# Altium footprint library Connect.PcbLib: 69 footprints (part 3 of 5)
Each footprint in its own frame and in the unit in brackets; x right, y up, seen from the top. Pads: shape width x height; smd on the part's side, far side on the other; paste and mask are expansions set on the pad; w line width, h text height; cw(c..) or ccw(c..) is an arc to the next point about the centre after c.
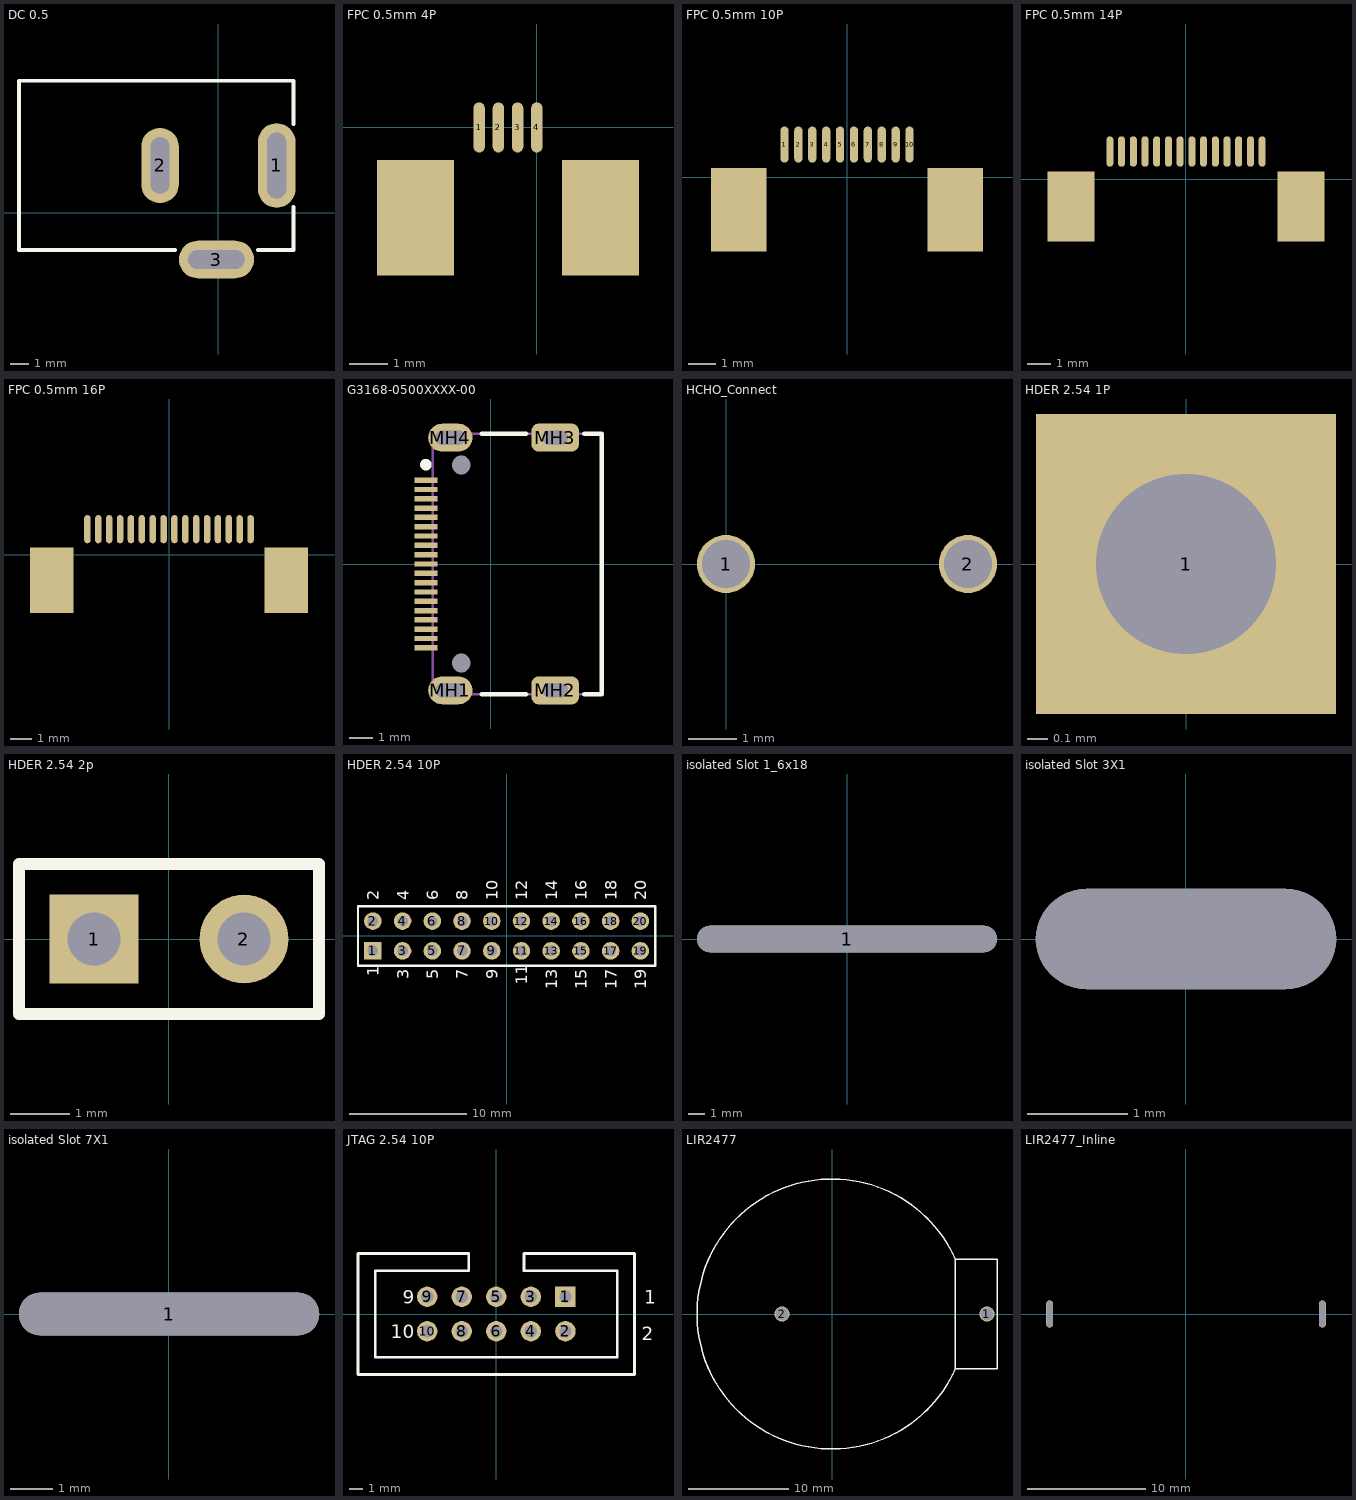
[diagram p2: the footprints below, top view; thin cyan lines are the x and y axes]

## DC 0.5 [mm]
pads (3):
  oval 2x4.5 hole 1 slot 3.5 at 90 deg: 1(3.1,2.5)
  oval 2x4 hole 1 slot 3 at 90 deg: 2(-3.1,2.5)
  oval 4x2 hole 1 slot 3 at 0 deg: 3(-0.1,-2.5)
Top Overlay:
  lines w0.2: -2.3,-2 -10.6,-2 -10.6,7 4,7 4,4.7 ; 2.1,-2 4,-2 4,0.3
3D body: height 7.62, standoff 0, extent -10.592,-1.944 4.013,6.946

## FPC 0.5mm 4P [mm]
pads (6):
  oval 0.3x1.3 smd: 1(-1.5,0) 2(-1,0) 3(-0.5,0) 4(0,0)
  rect 2x3 smd: ""(-3.15,-2.35) ""(1.65,-2.35)
3D body: height 1, standoff 0.8, extent -1.65,-4.64 -1.35,-1.625
3D body: height 1, standoff 0.8, extent -1.15,-4.63 -0.85,-1.615
3D body: height 1, standoff 0.8, extent -0.65,-4.64 -0.35,-1.625
3D body: height 1, standoff 0.8, extent -0.15,-4.64 0.15,-1.625
3D body: height 0.3, standoff 0, extent -4.54,-5.07 3.1,-4.035
3D body: height 0.3, standoff 0, extent -2.05,-4.395 0.6,-1.615
3D body: height 0.8, standoff 0, extent -1.65,-1.625 -1.35,0.505
3D body: height 1.5, standoff 1.2, extent -2.05,-4.395 0.64,-1.62
3D body: height 2, standoff 0, extent -4,-4.035 -2.05,-0.65
3D body: height 2, standoff 0, extent 0.675,-4.042 2.625,-0.657
3D body: height 2, standoff 1.7, extent -4.54,-5.07 3.1,-4.035
3D body: height 0.8, standoff 0, extent -1.15,-1.625 -0.85,0.505
3D body: height 0.8, standoff 0, extent -0.65,-1.625 -0.35,0.505
3D body: height 0.8, standoff 0, extent -0.15,-1.625 0.15,0.505
3D body: height 2, standoff 0, extent 2.78,-5.058 3.1,-4.023
3D body: height 2, standoff 0, extent -4.54,-5.07 -4.22,-4.035
3D body: height 2, standoff 0, extent 0.59,-4.38 3.1,-4.02
3D body: height 2, standoff 0, extent -4.54,-4.395 -2.05,-4.035
3D body: height 2, standoff 1.5, extent -2.05,-4.395 3.1,-4.035
3D body: height 1.5, standoff 0, extent -2.05,-1.975 1.7,-1.615

## FPC 0.5mm 10P [mm]
pads (12):
  oval 0.3x1.3 smd: 1(-2.25,1.175) 2(-1.75,1.175) 3(-1.25,1.175) 4(-0.75,1.175) 5(-0.25,1.175) 6(0.25,1.175) 7(0.75,1.175) 8(1.25,1.175) 9(1.75,1.175) 10(2.25,1.175)
  rect 2x3 smd: ""(-3.9,-1.175) ""(3.9,-1.175)
3D body: height 1, standoff 0.8, extent -2.4,-3.465 -2.1,-0.45
3D body: height 1, standoff 0.8, extent -1.9,-3.455 -1.6,-0.44
3D body: height 1, standoff 0.8, extent -1.4,-3.465 -1.1,-0.45
3D body: height 1, standoff 0.8, extent -0.9,-3.465 -0.6,-0.45
3D body: height 1, standoff 0.8, extent -0.4,-3.465 -0.1,-0.45
3D body: height 1, standoff 0.8, extent 0.1,-3.465 0.4,-0.45
3D body: height 1, standoff 0.8, extent 0.6,-3.465 0.9,-0.45
3D body: height 1, standoff 0.8, extent 1.1,-3.475 1.4,-0.46
3D body: height 1, standoff 0.8, extent 1.6,-3.455 1.9,-0.44
3D body: height 0.3, standoff 0, extent -5.29,-3.895 5.31,-2.86
3D body: height 0.3, standoff 0, extent -2.8,-3.22 2.8,-0.44
3D body: height 0.8, standoff 0, extent -2.4,-0.45 -2.1,1.68
3D body: height 1.5, standoff 1.2, extent -2.8,-3.22 2.8,-0.445
3D body: height 2, standoff 0, extent -4.75,-2.86 -2.8,0.525
3D body: height 2, standoff 0, extent 2.8,-2.86 4.75,0.525
3D body: height 2, standoff 1.7, extent -5.29,-3.895 5.31,-2.86
3D body: height 0.8, standoff 0, extent -1.9,-0.45 -1.6,1.68
3D body: height 0.8, standoff 0, extent -1.4,-0.45 -1.1,1.68
3D body: height 0.8, standoff 0, extent -0.9,-0.45 -0.6,1.68
3D body: height 0.8, standoff 0, extent -0.4,-0.45 -0.1,1.68
3D body: height 0.8, standoff 0, extent 0.1,-0.45 0.4,1.68
3D body: height 0.8, standoff 0, extent 0.6,-0.45 0.9,1.68
3D body: height 0.8, standoff 0, extent 1.1,-0.46 1.4,1.67
3D body: height 0.8, standoff 0, extent 1.6,-0.46 1.9,1.67
3D body: height 0.8, standoff 0, extent 2.1,-0.46 2.4,1.67
3D body: height 1, standoff 0.8, extent 2.1,-3.475 2.4,-0.46
3D body: height 2, standoff 0, extent 4.99,-3.895 5.31,-2.86
3D body: height 2, standoff 0, extent -5.29,-3.895 -4.97,-2.86
3D body: height 2, standoff 0, extent 2.8,-3.22 5.31,-2.86
3D body: height 2, standoff 0, extent -5.29,-3.22 -2.8,-2.86
3D body: height 2, standoff 1.5, extent -2.8,-3.22 2.8,-2.86
3D body: height 1.5, standoff 0, extent -2.8,-0.8 2.8,-0.44

## FPC 0.5mm 14P [mm]
pads (16):
  oval 0.3x1.3 smd: 1(-3.25,1.175) 2(-2.75,1.175) 3(-2.25,1.175) 4(-1.75,1.175) 5(-1.25,1.175) 6(-0.75,1.175) 7(-0.25,1.175) 8(0.25,1.175) 9(0.75,1.175) 10(1.25,1.175) 11(1.75,1.175) 12(2.25,1.175) 13(2.75,1.175) 14(3.25,1.175)
  rect 2x3 smd: ""(-4.9,-1.175) ""(4.9,-1.175)
3D body: height 1, standoff 0.8, extent 3.1,-3.475 3.4,-0.46
3D body: height 1, standoff 0.8, extent 2.6,-3.475 2.9,-0.46
3D body: height 1, standoff 0.8, extent 2.1,-3.475 2.4,-0.46
3D body: height 1, standoff 0.8, extent 1.6,-3.475 1.9,-0.46
3D body: height 0.8, standoff 0, extent 3.1,-0.46 3.4,1.67
3D body: height 0.8, standoff 0, extent 2.6,-0.46 2.9,1.67
3D body: height 0.8, standoff 0, extent 2.1,-0.46 2.4,1.67
3D body: height 0.8, standoff 0, extent 1.6,-0.46 1.9,1.67
3D body: height 1, standoff 0.8, extent -3.4,-3.465 -3.1,-0.45
3D body: height 1, standoff 0.8, extent -2.9,-3.455 -2.6,-0.44
3D body: height 1, standoff 0.8, extent -2.4,-3.465 -2.1,-0.45
3D body: height 1, standoff 0.8, extent -1.9,-3.465 -1.6,-0.45
3D body: height 1, standoff 0.8, extent -1.4,-3.465 -1.1,-0.45
3D body: height 1, standoff 0.8, extent -0.9,-3.465 -0.6,-0.45
3D body: height 1, standoff 0.8, extent -0.4,-3.465 -0.1,-0.45
3D body: height 1, standoff 0.8, extent 0.1,-3.475 0.4,-0.46
3D body: height 1, standoff 0.8, extent 0.6,-3.455 0.9,-0.44
3D body: height 0.3, standoff 0, extent -6.29,-3.895 6.25,-2.86
3D body: height 0.3, standoff 0, extent -3.8,-3.22 3.85,-0.44
3D body: height 0.8, standoff 0, extent -3.4,-0.45 -3.1,1.68
3D body: height 1.5, standoff 1.2, extent -3.8,-3.22 3.85,-0.445
3D body: height 2, standoff 0, extent -5.75,-2.86 -3.8,0.525
3D body: height 2, standoff 0, extent 3.925,-2.867 5.875,0.518
3D body: height 2, standoff 1.7, extent -6.29,-3.895 6.25,-2.86
3D body: height 0.8, standoff 0, extent -2.9,-0.45 -2.6,1.68
3D body: height 0.8, standoff 0, extent -2.4,-0.45 -2.1,1.68
3D body: height 0.8, standoff 0, extent -1.9,-0.45 -1.6,1.68
3D body: height 0.8, standoff 0, extent -1.4,-0.45 -1.1,1.68
3D body: height 0.8, standoff 0, extent -0.9,-0.45 -0.6,1.68
3D body: height 0.8, standoff 0, extent -0.4,-0.45 -0.1,1.68
3D body: height 0.8, standoff 0, extent 0.1,-0.46 0.4,1.67
3D body: height 0.8, standoff 0, extent 0.6,-0.46 0.9,1.67
3D body: height 0.8, standoff 0, extent 1.1,-0.46 1.4,1.67
3D body: height 1, standoff 0.8, extent 1.1,-3.475 1.4,-0.46
3D body: height 2, standoff 0, extent 5.94,-3.895 6.26,-2.86
3D body: height 2, standoff 0, extent -6.29,-3.895 -5.97,-2.86
3D body: height 2, standoff 0, extent 3.85,-3.22 6.25,-2.86
3D body: height 2, standoff 0, extent -6.29,-3.22 -3.8,-2.86
3D body: height 2, standoff 1.5, extent -3.8,-3.22 3.85,-2.86
3D body: height 1.5, standoff 0, extent -3.8,-0.8 3.85,-0.44

## FPC 0.5mm 16P [mm]
pads (18):
  oval 0.3x1.3 smd: 1(-3.75,1.175) 2(-3.25,1.175) 3(-2.75,1.175) 4(-2.25,1.175) 5(-1.75,1.175) 6(-1.25,1.175) 7(-0.75,1.175) 8(-0.25,1.175) 9(0.25,1.175) 10(0.75,1.175) 11(1.25,1.175) 12(1.75,1.175) 13(2.25,1.175) 14(2.75,1.175) 15(3.25,1.175) 16(3.75,1.175)
  rect 2x3 smd: ""(-5.4,-1.175) ""(5.4,-1.175)
3D body: height 1, standoff 0.8, extent 2.6,-3.475 2.9,-0.46
3D body: height 1, standoff 0.8, extent 2.1,-3.475 2.4,-0.46
3D body: height 1, standoff 0.8, extent 1.6,-3.475 1.9,-0.46
3D body: height 1, standoff 0.8, extent 1.1,-3.475 1.4,-0.46
3D body: height 0.8, standoff 0, extent 2.6,-0.46 2.9,1.67
3D body: height 0.8, standoff 0, extent 2.1,-0.46 2.4,1.67
3D body: height 0.8, standoff 0, extent 1.6,-0.46 1.9,1.67
3D body: height 0.8, standoff 0, extent 1.1,-0.46 1.4,1.67
3D body: height 1, standoff 0.8, extent -3.9,-3.465 -3.6,-0.45
3D body: height 1, standoff 0.8, extent -3.4,-3.455 -3.1,-0.44
3D body: height 1, standoff 0.8, extent -2.9,-3.465 -2.6,-0.45
3D body: height 1, standoff 0.8, extent -2.4,-3.465 -2.1,-0.45
3D body: height 1, standoff 0.8, extent -1.9,-3.465 -1.6,-0.45
3D body: height 1, standoff 0.8, extent -1.4,-3.465 -1.1,-0.45
3D body: height 1, standoff 0.8, extent -0.9,-3.465 -0.6,-0.45
3D body: height 1, standoff 0.8, extent -0.4,-3.475 -0.1,-0.46
3D body: height 1, standoff 0.8, extent 0.1,-3.455 0.4,-0.44
3D body: height 0.3, standoff 0, extent -6.79,-3.895 6.75,-2.86
3D body: height 0.3, standoff 0, extent -4.35,-3.215 4.45,-0.435
3D body: height 0.8, standoff 0, extent -3.9,-0.45 -3.6,1.68
3D body: height 1.5, standoff 1.2, extent -4.3,-3.22 4.35,-0.445
3D body: height 2, standoff 0, extent -6.25,-2.86 -4.3,0.525
3D body: height 2, standoff 0, extent 4.425,-2.867 6.375,0.518
3D body: height 2, standoff 1.7, extent -6.79,-3.895 6.75,-2.86
3D body: height 0.8, standoff 0, extent -3.4,-0.45 -3.1,1.68
3D body: height 0.8, standoff 0, extent -2.9,-0.45 -2.6,1.68
3D body: height 0.8, standoff 0, extent -2.4,-0.45 -2.1,1.68
3D body: height 0.8, standoff 0, extent -1.9,-0.45 -1.6,1.68
3D body: height 0.8, standoff 0, extent -1.4,-0.45 -1.1,1.68
3D body: height 0.8, standoff 0, extent -0.9,-0.45 -0.6,1.68
3D body: height 0.8, standoff 0, extent -0.4,-0.46 -0.1,1.67
3D body: height 0.8, standoff 0, extent 0.1,-0.46 0.4,1.67
3D body: height 0.8, standoff 0, extent 0.6,-0.46 0.9,1.67
3D body: height 1, standoff 0.8, extent 0.6,-3.475 0.9,-0.46
3D body: height 2, standoff 0, extent 6.39,-3.842 6.71,-2.807
3D body: height 2, standoff 0, extent -6.79,-3.895 -6.47,-2.86
3D body: height 2, standoff 0, extent 4.35,-3.22 6.75,-2.86
3D body: height 2, standoff 0, extent -6.79,-3.22 -4.3,-2.86
3D body: height 2, standoff 1.5, extent -4.3,-3.22 4.35,-2.86
3D body: height 1.5, standoff 0, extent -4.3,-0.8 4.35,-0.44
3D body: height 0.8, standoff 0, extent 3.1,-0.46 3.4,1.67
3D body: height 0.8, standoff 0, extent 3.6,-0.46 3.9,1.67
3D body: height 1, standoff 0.8, extent 3.1,-3.475 3.4,-0.46
3D body: height 1, standoff 0.8, extent 3.6,-3.475 3.9,-0.46

## G3168-0500XXXX-00 [mm] "3168 Series HDMI Type C, Female, Right-Angle, SMT"
pads (25):
  rect 1x0.23 smd paste+0.038 mask+0.038: 1(-2.775,3.6) 2(-2.775,3.2) 3(-2.775,2.8) 4(-2.775,2.4) 5(-2.775,2) 6(-2.775,1.6) 7(-2.775,1.2) 8(-2.775,0.8) 9(-2.775,0.4) 10(-2.775,0) 11(-2.775,-0.4) 12(-2.775,-0.8) 13(-2.775,-1.2) 14(-2.775,-1.6) 15(-2.775,-2) 16(-2.775,-2.4) 17(-2.775,-2.8) 18(-2.775,-3.2) 19(-2.775,-3.6)
  oval 1.9x1.2 hole 0.6 slot 1.3 at 0 deg paste+0.038 mask+0.038: MH1(-1.725,-5.425) MH4(-1.725,5.425)
  rrect50% 2.032x1.2 hole 0.6 slot 1.1 at 0 deg paste+0.038 mask+0.038: MH2(2.775,-5.425) MH3(2.775,5.425)
  round 0.5 hole 0.8 unplated paste+0.038 mask+0.038: MH5(-1.25,-4.25) MH6(-1.25,4.25)
Top Overlay:
  circle w0.25: c-2.775,4.265 r0.125
  lines w0.2: -0.375,-5.6 1.525,-5.6 ; -0.375,5.6 1.525,5.6 ; 4.025,-5.6 4.775,-5.6 4.775,5.6 4.025,5.6
Mechanical 13:
  lines w0.1: -2.475,-5.6 -2.475,5.6 4.775,5.6 4.775,-5.6 -2.475,-5.6
3D body: height 2.67, standoff 0, extent -2.474,-5.602 4.774,5.599

## HCHO_Connect [mm]
pads (2):
  round 1.2 hole 1: 1(0,0) 2(5,0)

## HDER 2.54 1P [mm]
pads (1):
  rect 1.5x1.5 hole 0.9: 1(0,0)
3D body: height 0, standoff -5, extent -0.489,-0.507 0.511,0.493
3D body: height 2, standoff 0, extent -1.2,-1.27 1.2,1.27
3D body: height 10, standoff 0, extent -0.5,-0.5 0.5,0.5

## HDER 2.54 2p [mm]
pads (2):
  rect 1.5x1.5 hole 0.9: 1(-1.27,0)
  round 1.5 hole 0.9: 2(1.27,0)
Top Overlay:
  lines w0.2: -2.54,-1.27 -2.54,1.27 2.54,1.27 2.54,-1.27 -2.54,-1.27
3D body: height 10, standoff 0, extent 0.781,-0.507 1.781,0.493
3D body: height 10, standoff 0, extent -1.759,-0.507 -0.759,0.493
3D body: height 2, standoff 0, extent -2.529,-1.277 2.551,1.263

## HDER 2.54 10P [mm]
pads (20):
  rect 1.5x1.5 hole 0.9: 1(-11.43,-1.27)
  round 1.5 hole 0.9: 2(-11.43,1.27) 3(-8.89,-1.27) 4(-8.89,1.27) 5(-6.35,-1.27) 6(-6.35,1.27) 7(-3.81,-1.27) 8(-3.81,1.27) 9(-1.27,-1.27) 10(-1.27,1.27) 11(1.27,-1.27) 12(1.27,1.27) 13(3.81,-1.27) 14(3.81,1.27) 15(6.35,-1.27) 16(6.35,1.27) 17(8.89,-1.27) 18(8.89,1.27) 19(11.43,-1.27) 20(11.43,1.27)
Top Overlay:
  lines w0.2: -12.7,-2.54 12.7,-2.54 12.7,2.54 -12.7,2.54 -12.7,-2.54
  text "3" at -8.382,-3.683 h1
  text "4" at -8.382,3.048 h1
  text "7" at -3.302,-3.683 h1
  text "8" at -3.302,3.048 h1
  text "9" at -0.762,-3.683 h1
  text "10" at -0.762,3.048 h1
  text "13" at 4.318,-4.572 h1
  text "14" at 4.318,3.048 h1
  text "17" at 9.398,-4.572 h1
  text "18" at 9.398,3.048 h1
  text "5" at -5.842,-3.683 h1
  text "11" at 1.778,-4.191 h1
  text "15" at 6.858,-4.572 h1
  text "6" at -5.842,3.048 h1
  text "12" at 1.778,3.048 h1
  text "16" at 6.858,3.048 h1
  text "2" at -10.922,3.048 h1
  text "1" at -10.922,-3.429 h1
  text "19" at 11.938,-4.572 h1
  text "20" at 11.938,3.048 h1
3D body: height 10, standoff 0, extent -11.919,-1.777 -10.919,-0.777
3D body: height 10, standoff 0, extent -9.379,-1.777 -8.379,-0.777
3D body: height 10, standoff 0, extent -6.839,-1.777 -5.839,-0.777
3D body: height 10, standoff 0, extent -4.299,-1.777 -3.299,-0.777
3D body: height 10, standoff 0, extent -1.759,-1.777 -0.759,-0.777
3D body: height 10, standoff 0, extent 0.781,-1.777 1.781,-0.777
3D body: height 10, standoff 0, extent 3.321,-1.777 4.321,-0.777
3D body: height 10, standoff 0, extent 5.861,-1.777 6.861,-0.777
3D body: height 10, standoff 0, extent 8.401,-1.777 9.401,-0.777
3D body: height 10, standoff 0, extent 10.941,-1.777 11.941,-0.777
3D body: height 10, standoff 0, extent 10.941,0.763 11.941,1.763
3D body: height 10, standoff 0, extent 8.401,0.763 9.401,1.763
3D body: height 10, standoff 0, extent 5.861,0.763 6.861,1.763
3D body: height 10, standoff 0, extent 3.321,0.763 4.321,1.763
3D body: height 10, standoff 0, extent 0.781,0.763 1.781,1.763
3D body: height 10, standoff 0, extent -1.759,0.763 -0.759,1.763
3D body: height 10, standoff 0, extent -4.299,0.763 -3.299,1.763
3D body: height 10, standoff 0, extent -6.839,0.763 -5.839,1.763
3D body: height 10, standoff 0, extent -9.379,0.763 -8.379,1.763
3D body: height 10, standoff 0, extent -11.919,0.763 -10.919,1.763
3D body: height 2, standoff 0, extent -12.689,-2.547 12.711,2.533

## isolated Slot 1_6x18 [mm]
pads (1):
  oval 18x1.6 hole 1.6 slot 18 at 0 deg: 1(0,0)

## isolated Slot 3X1 [mm]
pads (1):
  oval 3x1 hole 1 slot 3 at 0 deg: ""(0,0)

## isolated Slot 7X1 [mm]
pads (1):
  oval 7x1 hole 1 slot 7 at 0 deg: 1(0,0)

## JTAG 2.54 10P [mm] "JTAG 2.54 10P"
pads (10):
  rect 1.5x1.5 hole 0.9: 1(5.08,1.27)
  round 1.5 hole 0.9: 2(5.08,-1.27) 3(2.54,1.27) 4(2.54,-1.27) 5(0,1.27) 6(0,-1.27) 7(-2.54,1.27) 8(-2.54,-1.27) 9(-5.08,1.27) 10(-5.08,-1.27)
Top Overlay:
  lines w0.2: -2.032,3.175 -2.032,4.445 -10.16,4.445 -10.16,-4.445 10.16,-4.445 10.16,4.445 2.032,4.445 2.032,3.175 ; -2.023,3.175 -8.89,3.175 -8.89,-3.175 8.89,-3.175 8.89,3.176 2.027,3.176
  text "10" at -7.747,-1.778 h1
  text "9" at -6.858,0.762 h1
  text "1" at 10.88,0.77 h1
  text "2" at 10.68,-1.93 h1
3D body: height 10, standoff 0, extent 4.577,-1.774 5.577,-0.774
3D body: height 10, standoff 0, extent 2.037,-1.774 3.037,-0.774
3D body: height 10, standoff 0, extent -0.503,-1.774 0.497,-0.774
3D body: height 10, standoff 0, extent -3.043,-1.774 -2.043,-0.774
3D body: height 10, standoff 0, extent -5.583,-1.774 -4.583,-0.774
3D body: height 10, standoff 0, extent -5.583,0.766 -4.583,1.766
3D body: height 10, standoff 0, extent -3.043,0.766 -2.043,1.766
3D body: height 10, standoff 0, extent -0.503,0.766 0.497,1.766
3D body: height 10, standoff 0, extent 2.037,0.766 3.037,1.766
3D body: height 10, standoff 0, extent 4.577,0.766 5.577,1.766
3D body: height 2, standoff 0, extent -10.163,-4.449 10.157,4.441
3D body: height 10, standoff 0, extent -10.159,-4.444 10.159,4.444

## LIR2477 [mm]
pads (2):
  round 1.5 hole 1.3: 1(15.5,0) 2(-5,0)
Top Overlay:
  lines w0.15: 12.3,-5.5 12.3,5.5 16.5,5.5 16.5,-5.5 12.3,-5.5
  lines w0.152: 12.324,-5.511 cw(c0,0) 12.324,5.511
3D body: height 1.2, standoff 0, extent 12.3,-5.5 16.5,5.5
3D body: height 1.2, standoff 0, extent -13.393,-13.473 13.5,13.474

## LIR2477_Inline [mm]
pads (2):
  oval 0.6x2.3 hole 0.5 slot 2.2 at 90 deg: 1(11.5,0) 2(-11.5,0)
3D body: height 7.7, standoff 0, extent -12.084,-12.056 12.02,12.096